# Altium schematic symbol library Scope.SchLib: 5 symbols
Pins are listed as number, name and electrical type; pins without a type are passive.

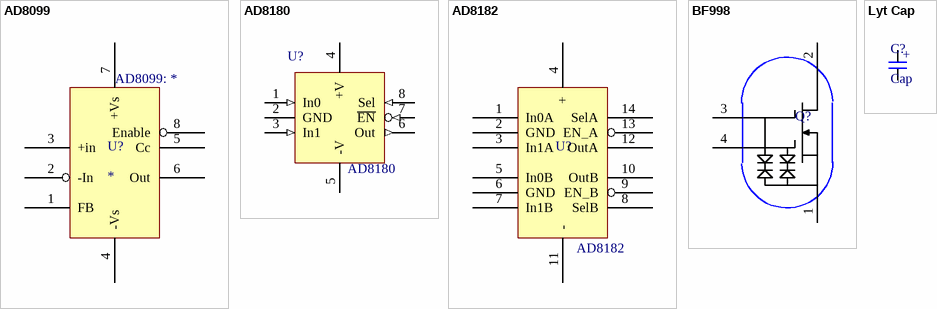
[diagram p0: symbols AD8099 to Lyt Cap]

## AD8099
designator U?
AD8099: *
footprint SO8
pins: 1 FB, 2 -In, 3 +in, 4 -Vs, 5 Cc, 6 Out, 7 +Vs, 8 Enable

## AD8180
designator U?  PartNumber: AD8180  (hidden comment: *)
Supplier 1: Digi-Key; Supplier Part Number 1: AD8180ARZ-ND
footprint SO14
footprint SOIC127P600-8AL (SOIC, 8-Leads, Body 4.9x3.9mm, Pitch 1.27mm, IPC High Density)
pins: 1 In0 (in), 2 GND (power), 3 In1 (in), 4 +V (power), 5 -V (power), 6 Out (out), 7 ~{EN} (in), 8 Sel (in)

## AD8182
designator U?  PartNumber: AD8182  (hidden comment: *)
footprint SO14
pins: 1 In0A, 2 GND, 3 In1A, 4 +, 5 In0B, 6 GND, 7 In1B, 8 SelB, 9 EN_B, 10 OutB, 11 -, 12 OutA, 13 EN_A, 14 SelA

## BF998
designator Q?, comment MOSFET  (value not drawn)
Dual-gate MOSFET; Manufacturer: NXP; Layout variant: Regular
footprint SOT143
pins: 1, 2, 3, 4

## Lyt Cap
designator C?, comment Cap
footprint H13 (Lyt aluminum Cap SMD)
pins: 1, 2
text: +